# Altium schematic symbol library Power.SchLib: 18 symbols
Pins are listed as number, name and electrical type; pins without a type are passive.

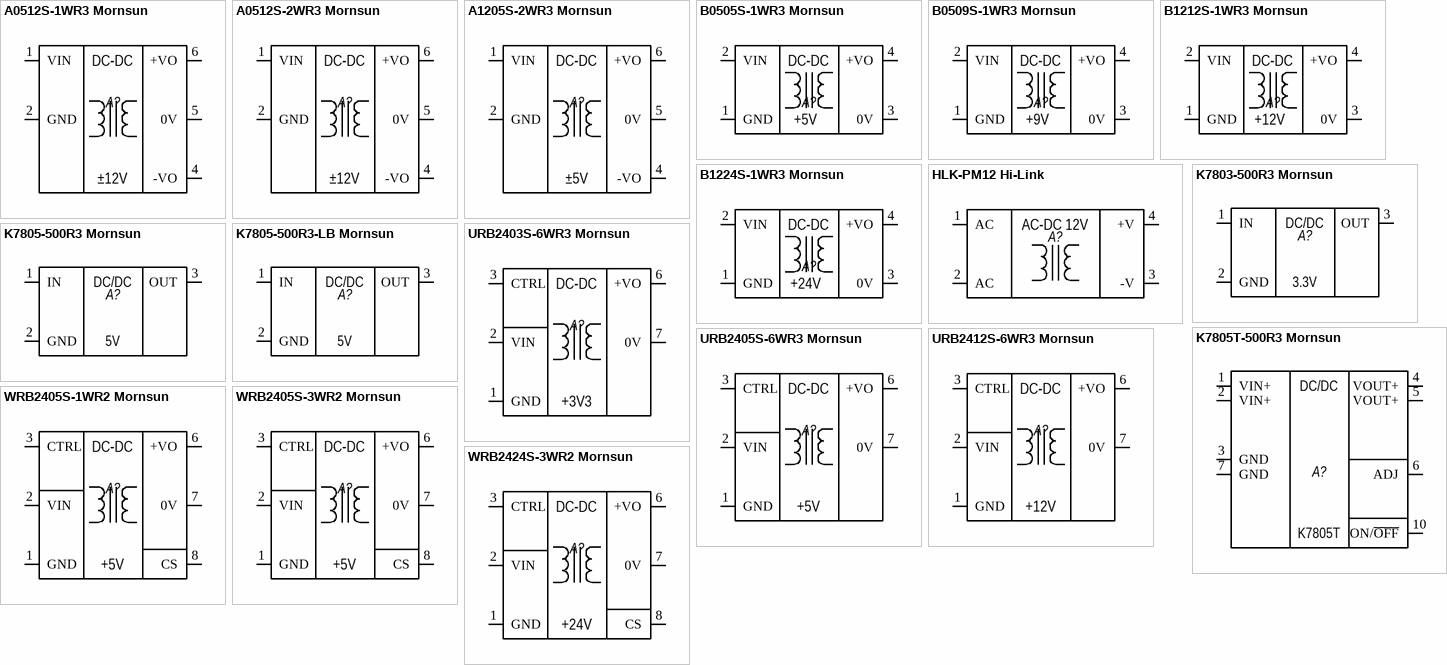
[diagram p0: symbols A0512S-1WR3 Mornsun to WRB2424S-3WR2 Mornsun]

## A0512S-1WR3 Mornsun
designator A?  (value not drawn)
DC-DC Вход 5 (4.5..5.5) Вольт, выход +12, -12 Вольт
footprint A05_S-1WR3
pins: 1 VIN, 2 GND, 4 -VO, 5 0V, 6 +VO
text: DC-DC; ±12V

## A0512S-2WR3 Mornsun
designator A?  (value not drawn)
DC-DC Вход 5 (4.5..5.5) Вольт, выход +12, -12 Вольт
footprint A05_S-2WR3
pins: 1 VIN, 2 GND, 4 -VO, 5 0V, 6 +VO
text: DC-DC; ±12V

## A1205S-2WR3 Mornsun
designator A?  (value not drawn)
DC-DC Вход 12 Вольт, выход +5 -5 Вольт
footprint A05_S-1WR3
pins: 1 VIN, 2 GND, 4 -VO, 5 0V, 6 +VO
text: DC-DC; ±5V

## B0505S-1WR3 Mornsun
designator A?  (value not drawn)
DC-DC Вход 5 (4.5..5.5) Вольт, выход +5 Вольт
footprint B_S-1WR3
pins: 1 GND, 2 VIN, 3 0V, 4 +VO
text: DC-DC; +5V

## B0509S-1WR3 Mornsun
designator A?  (value not drawn)
DC-DC Вход 5 (4.5..5.5) Вольт, выход +9 Вольт
footprint B_S-1WR3
pins: 1 GND, 2 VIN, 3 0V, 4 +VO
text: DC-DC; +9V

## B1212S-1WR3 Mornsun
designator A?  (value not drawn)
DC-DC Вход 12 Вольт, выход +12 Вольт
footprint B_S-1WR3
pins: 1 GND, 2 VIN, 3 0V, 4 +VO
text: DC-DC; +12V

## B1224S-1WR3 Mornsun
designator A?  (value not drawn)
DC-DC Вход 12 Вольт, выход +24 Вольт
footprint B_S-1WR3
pins: 1 GND, 2 VIN, 3 0V, 4 +VO
text: DC-DC; +24V

## HLK-PM12 Hi-Link
designator A?  (value not drawn)
Partnumber: =Identifier
footprint HLK-PMxx
pins: 1 AC, 2 AC, 3 -V, 4 +V
text: AC-DC 12V

## K7803-500R3 Mornsun
designator A?  (value not drawn)
footprint K78xx-500R3
pins: 1 IN, 2 GND, 3 OUT
text: DC/DC; 3.3V

## K7805-500R3 Mornsun
designator A?  (value not drawn)
footprint K78xx-500R3
pins: 1 IN, 2 GND, 3 OUT
text: DC/DC; 5V

## K7805-500R3-LB Mornsun
designator A?  (value not drawn)
footprint K78xx-500R3-LB
pins: 1 IN, 2 GND, 3 OUT
text: DC/DC; 5V

## K7805T-500R3 Mornsun
designator A?  (value not drawn)
footprint K78_T-500R3
pins: 1 VIN+, 2 VIN+, 3 GND, 4 VOUT+, 5 VOUT+, 6 ADJ, 7 GND, 10 ON/~{OFF}
1 alternate drawing of the same symbol
text: DC/DC; K7805T

## URB2403S-6WR3 Mornsun
designator A?  (value not drawn)
DC-DC Вход 24 (9..36) Вольт, выход +3.3Вольт
footprint WRA(B)_S-1WR2
pins: 1 GND, 2 VIN, 3 CTRL, 6 +VO, 7 0V
text: DC-DC; +3V3

## URB2405S-6WR3 Mornsun
designator A?  (value not drawn)
DC-DC Вход 24 (9..36) Вольт, выход +5Вольт
footprint WRA(B)_S-1WR2
pins: 1 GND, 2 VIN, 3 CTRL, 6 +VO, 7 0V
text: DC-DC; +5V

## URB2412S-6WR3 Mornsun
designator A?  (value not drawn)
DC-DC Вход 24 (9..36) Вольт, выход +12Вольт
footprint WRA(B)_S-1WR2
pins: 1 GND, 2 VIN, 3 CTRL, 6 +VO, 7 0V
text: DC-DC; +12V

## WRB2405S-1WR2 Mornsun
designator A?  (value not drawn)
DC-DC Вход 24 (18..36) Вольт, выход +5Вольт
footprint WRA(B)_S-1WR2
pins: 1 GND, 2 VIN, 3 CTRL, 6 +VO, 7 0V, 8 CS
text: DC-DC; +5V

## WRB2405S-3WR2 Mornsun
designator A?  (value not drawn)
DC-DC Вход 24 (18..36) Вольт, выход +5Вольт
footprint WRA(B)_S-1WR2
pins: 1 GND, 2 VIN, 3 CTRL, 6 +VO, 7 0V, 8 CS
text: DC-DC; +5V

## WRB2424S-3WR2 Mornsun
designator A?  (value not drawn)
DC-DC Вход 24 (18..36) Вольт, выход +5Вольт
footprint WRA(B)_S-1WR2
pins: 1 GND, 2 VIN, 3 CTRL, 6 +VO, 7 0V, 8 CS
text: DC-DC; +24V